# Altium schematic symbol library TPS76133DBVR.SchLib: 1 symbol
Pins are listed as number, name and electrical type; pins without a type are passive.

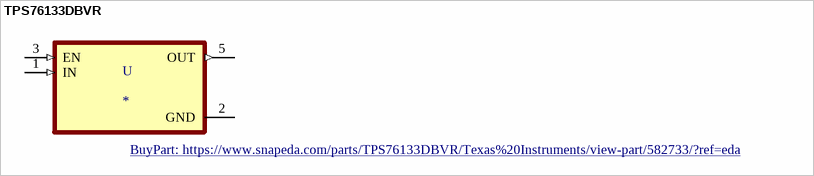
[diagram p0: symbol TPS76133DBVR]

## TPS76133DBVR
designator U
100-mA, 16-V, low-dropout voltage regulator with reverse current protection 5-SOT-23 -40 to 125; MP: TPS76133DBVR; MF: Texas Instruments; Price: None; Mouser-Purchase-URL: https://snapeda.com/shop?store=Mouser&id=582733; SnapEDA_Link: https://www.snapeda.com/parts/TPS76133DBVR/Texas%20Instruments/view-part/582733/?ref=snap; Package: SOT-23-5 Texas Instruments; DigiKey-Purchase-URL: https://snapeda.com/shop?store=DigiKey&id=582733; Availability: Good; Texas_Instruments-Purchase-URL: https://snapeda.com/shop?store=Texas+Instruments&id=582733; Value: *; BuyPart: https://www.snapeda.com/parts/TPS76133DBVR/Texas%20Instruments/view-part/582733/?ref=eda
footprint SOT95P280X145-5N
pins: 1 IN (in), 2 GND (power), 3 EN (in), 5 OUT (out)